# EAGLE library part AD7492 (library analog_devices_gaui)
Analog Devices AD7492 TSSOP-24 package By Gudjon I. Gudjonsson (gudjon@mc2.chalmers.se).
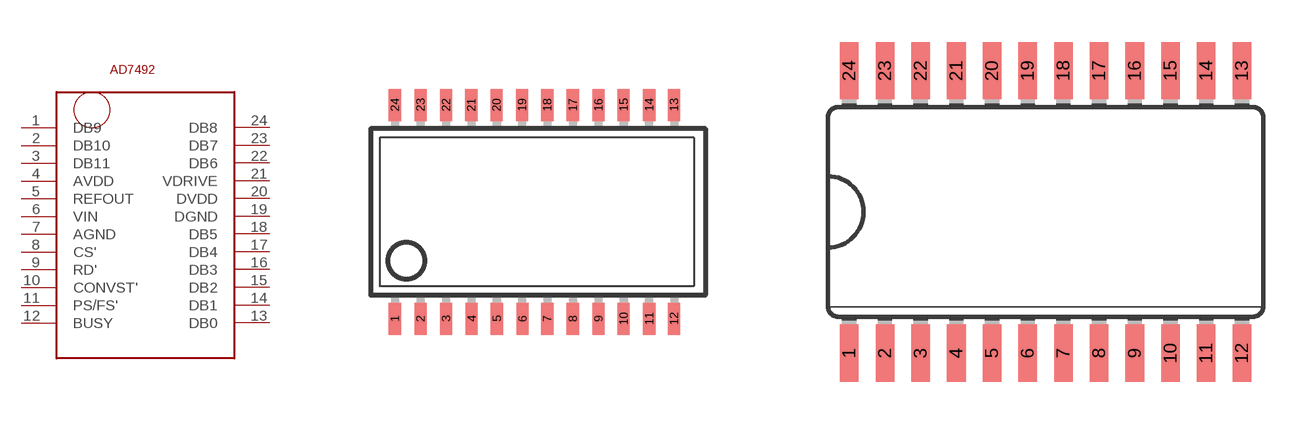
[diagram p0: symbol with the pads of TSSOP24; footprints TSSOP24, SO24L]

Designator prefix IC

## AD7492ARU  [TSSOP24]
1  DB9  out
2  DB10  out
3  DB11  out
4  AVDD  pwr
5  REFOUT  out
6  VIN  in
7  AGND  pwr
8  CS'  in
9  RD'  in
10  CONVST'  in
11  PS/FS'
12  BUSY
13  DB0  out
14  DB1  out
15  DB2  out
16  DB3  out
17  DB4  out
18  DB5  out
19  DGND  pwr
20  DVDD  pwr
21  VDRIVE
22  DB6  out
23  DB7  out
24  DB8  out

## AD7492AR  [SO24L]
Pads as for TSSOP24

## Footprint TSSOP24 (pad centres in mm)
smd 0.305 x 0.8: 1 1.74,0.8; 2 2.38,0.8; 3 3.02,0.8; 4 3.66,0.8; 5 4.29,0.8; 6 4.93,0.8; 7 5.55,0.8; 8 6.19,0.8; 9 6.83,0.8; 10 7.46,0.8; 11 8.1,0.8; 12 8.72,0.8; 13 8.72,6.15; 14 8.1,6.15; 15 7.46,6.15; 16 6.83,6.15; 17 6.19,6.15; 18 5.55,6.15; 19 4.92,6.15; 20 4.28,6.15; 21 3.65,6.15; 22 3.02,6.15; 23 2.38,6.15; 24 1.74,6.15

## Footprint SO24L (pad centres in mm)
Small Outline package large
smd 0.66 x 2.032: 1 -6.985,-5.029; 2 -5.715,-5.029; 3 -4.445,-5.029; 4 -3.175,-5.029; 5 -1.905,-5.029; 6 -0.635,-5.029; 7 0.635,-5.029; 8 1.905,-5.029; 9 3.175,-5.029; 10 4.445,-5.029; 11 5.715,-5.029; 12 6.985,-5.029; 13 6.985,5.029; 14 5.715,5.029; 15 4.445,5.029; 16 3.175,5.029; 17 1.905,5.029; 18 0.635,5.029; 19 -0.635,5.029; 20 -1.905,5.029; 21 -3.175,5.029; 22 -4.445,5.029; 23 -5.715,5.029; 24 -6.985,5.029